# Altium schematic symbol library ADA_DRV2605L.SchLib: 1 symbol
Pins are listed as number, name and electrical type; pins without a type are passive.

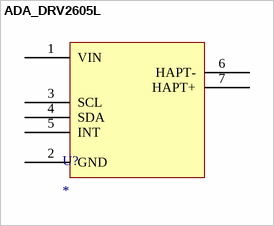
[diagram p0: symbol ADA_DRV2605L]

## ADA_DRV2605L
designator U?
footprint ADA_DRV2605L
pins: 1 VIN, 2 GND, 3 SCL, 4 SDA, 5 INT, 6 HAPT-, 7 HAPT+